# Altium schematic symbol library BC847BPN.SchLib: 1 symbol
Pins are listed as number, name and electrical type; pins without a type are passive.

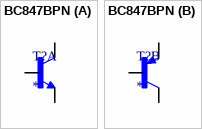
[diagram p0: symbol BC847BPN]

## BC847BPN
designator T?
NPN/PNP general-purpose transistor pair in a very small SOT363 (SC-88) Surface-Mounted Device (SMD) plastic package. <p><author>AAL Eindhoven MK</author><hr><p>  <img src="http://www.nxp.com/img/NXP_logo.png">; MP: BC847BPN; MF: {'manufacturer': u'NXP Semiconductors'}; Value: *; Availability: Unavailable; Package: None; Price: None
footprint SOT363
part A pins: 1 E, 2 B, 6 C
part B pins: 3 C, 4 E, 5 B